# Altium footprint library D 电源模块.PcbLib: 107 footprints (part 2 of 7)
Each footprint in its own frame and in the unit in brackets; x right, y up, seen from the top. Pads: shape width x height; smd on the part's side, far side on the other; paste and mask are expansions set on the pad; w line width, h text height; cw(c..) or ccw(c..) is an arc to the next point about the centre after c.
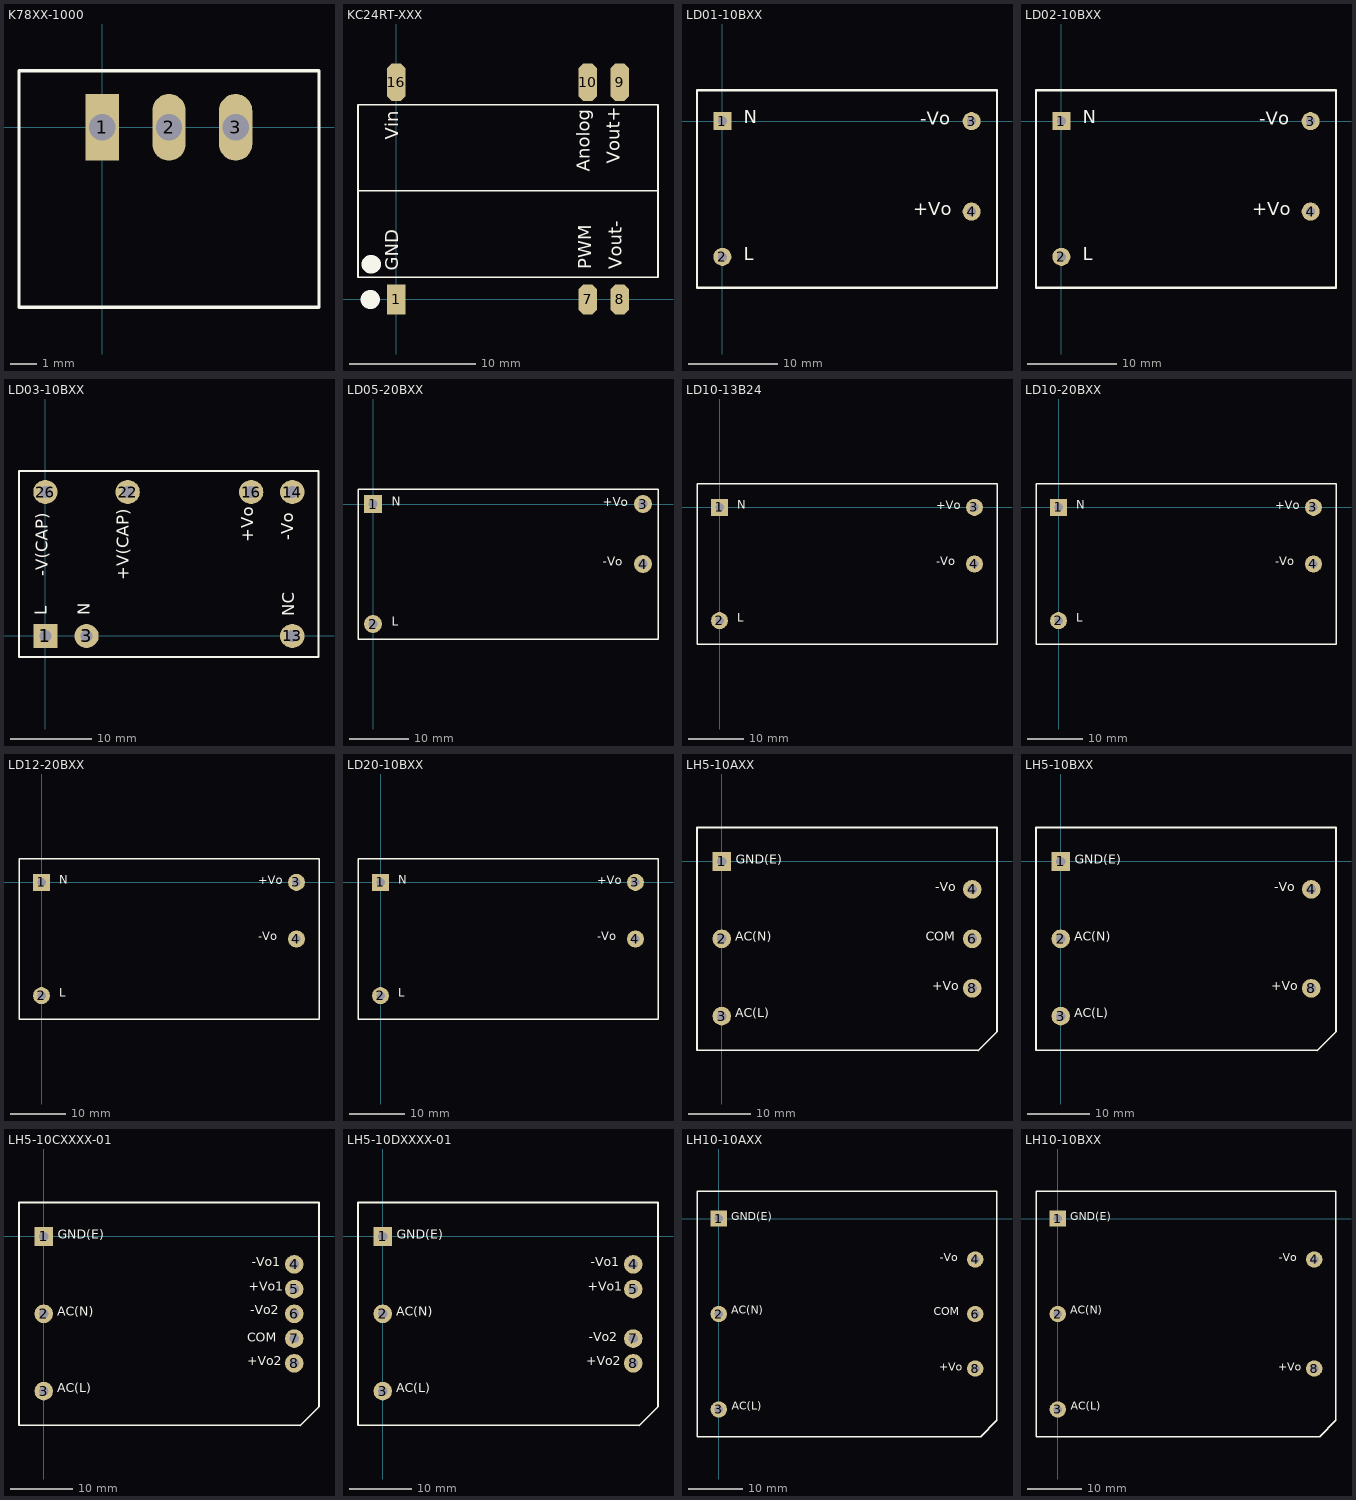
[diagram p1: the footprints below, top view; thin cyan lines are the x and y axes]

## K78XX-1000 [mm] "类似7805的开光电源"
height 17
pads (3):
  rect 1.27x2.54 hole 1: 1(0,0)
  oval 1.27x2.54 hole 1: 2(2.54,0) 3(5.08,0)
Top Overlay:
  lines w0.127: -3.175,-6.858 8.255,-6.858 8.255,2.159 -3.175,2.159 -3.175,-6.858

## KC24RT-XXX [mm] "金升阳大功率LED恒流驱动器-恒流单输出模块电源-300,350,500,600,700"
height 8
pads (6):
  rect 1.5x2.4 smd: 1(0,0)
  oct 1.5x2.4 smd: 7(15.24,0) 8(17.78,0)
  oct 1.5x3 smd: 9(17.78,17.272) 10(15.24,17.272) 16(0,17.272)
Top Overlay:
  lines w0.127: -3.048,8.636 20.828,8.636 ; -3.048,1.778 -3.048,15.494 20.828,15.494 20.828,1.778 -3.048,1.778
  lines w1.5: -2.083,0 -2.032,0 ; -2.032,2.794 -1.981,2.794
  text "Anolog" at 15.748,10.16 h1.78
  text "Vout+" at 18.161,10.795 h1.78
  text "Vout-" at 18.288,2.413 h1.78
  text "PWM" at 15.875,2.413 h1.78
  text "Vin" at 0.508,12.7 h1.78
  text "GND" at 0.508,2.286 h1.78

## LD01-10BXX [mil] "金升阳 1W 高性能超小体积AC-DC模块(85-265VAC,120-370VDC)"
height 708.66
pads (4):
  rect 80x80 hole 40: 1(0,0)
  round 80 hole 40: 2(0,-600) 3(1102.36,0) 4(1102.36,-400)
Top Overlay:
  lines w10: -112.2,-737.01 1214.57,-737.01 1214.57,137.01 -112.2,137.01 -112.2,-737.01
  text "L" at 95,-635 h100
  text "N" at 95,-30 h100
  text "+Vo" at 845,-435 h100
  text "-Vo" at 875,-35 h100
Bottom Overlay:
  text "-Vo" at 1005,-35 h100
  text "+Vo" at 1000,-435 h100
  text "L" at 135,-635 h100
  text "N" at 145,-30 h100

## LD02-10BXX [mil] "金升阳 2W 高性能超小体积AC-DC模块(85-265VAC,120-370VDC)"
height 708.66
pads (4):
  rect 80x80 hole 40: 1(0,0)
  round 80 hole 40: 2(0,-600) 3(1102.36,0) 4(1102.36,-400)
Top Overlay:
  lines w10: -112.2,-737.01 -112.2,137.01 1214.57,137.01 1214.57,-737.01 -112.2,-737.01
  text "-Vo" at 875,-35 h100
  text "+Vo" at 845,-435 h100
  text "N" at 95,-30 h100
  text "L" at 95,-635 h100
Bottom Overlay:
  text "N" at 145,-30 h100
  text "L" at 135,-635 h100
  text "+Vo" at 1000,-435 h100
  text "-Vo" at 1005,-35 h100

## LD03-10BXX [mm] "金升阳 3 W 高性能超小体积AC-DC模块(85-265VAC,120-370VDC)"
height 15
pads (7):
  rect 3x3 hole 1.5: 1(0,0)
  round 3 hole 1.5: 3(5.08,0) 13(30.48,0) 14(30.48,17.78) 16(25.4,17.78) 22(10.16,17.78) 26(0,17.78)
Top Overlay:
  lines w0.254: -3.26,-2.61 33.74,-2.61 33.74,20.39 30.48,20.39 0,20.39 -3.26,20.39 -3.26,-2.61
  text "+V(CAP)" at 10.795,6.858 h2.54
  text "-V(CAP)" at 0.762,7.366 h2.54
  text "N" at 5.969,2.54 h2.54
  text "L" at 0.635,2.54 h2.54
  text "NC" at 31.242,2.413 h2.54
  text "+Vo" at 26.162,11.557 h2.54
  text "-Vo" at 31.115,11.811 h2.54
Bottom Overlay:
  text "-Vo" at 29.464,11.811 h2.54
  text "+Vo" at 24.511,11.557 h2.54
  text "+V(CAP)" at 9.652,6.858 h2.54
  text "-V(CAP)" at -0.762,7.366 h2.54
  text "NC" at 29.591,2.413 h2.54
  text "N" at 4.445,2.54 h2.54
  text "L" at -1.016,2.54 h2.54

## LD05-20BXX [mil] "金升阳 5W 高性能超小体积AC-DC模块(85-265VAC,120-370VDC)"
height 596.85
pads (4):
  rect 120x120 hole 60: 1(0,0)
  round 120 hole 60: 2(0,-800) 3(1800,0) 4(1800,-400)
Top Overlay:
  lines w10: -100,-900 -100,100 1900,100 1900,-900 -100,-900
  text "-Vo" at 1530,-430 h100
  text "+Vo" at 1530,-35 h100
  text "N" at 125,-30 h100
  text "L" at 125,-830 h100
Bottom Overlay:
  text "N" at 175,-30 h100
  text "L" at 165,-830 h100
  text "+Vo" at 1685,-35 h100
  text "-Vo" at 1660,-430 h100

## LD10-13B24 [mil] "金升阳 10W 高性能超小体积AC-DC模块(85-305VAC,120-430VDC)"
height 748.03
pads (4):
  rect 120x120 hole 60: 1(0,0)
  round 120 hole 60: 2(0,-800) 3(1800,0) 4(1800,-400)
Top Overlay:
  lines w10: -159.06,-966.93 1959.06,-966.93 1959.06,166.93 -159.06,166.93 -159.06,-966.93
  text "L" at 125,-830 h100
  text "N" at 125,-30 h100
  text "+Vo" at 1530,-35 h100
  text "-Vo" at 1530,-430 h100
Bottom Overlay:
  text "-Vo" at 1660,-430 h100
  text "+Vo" at 1685,-35 h100
  text "L" at 165,-830 h100
  text "N" at 175,-30 h100

## LD10-20BXX [mil] "金升阳 10W 高性能超小体积AC-DC模块(85-265VAC,120-370VDC)"
height 748.03
pads (4):
  rect 120x120 hole 60: 1(0,0)
  round 120 hole 60: 2(0,-800) 3(1800,0) 4(1800,-400)
Top Overlay:
  lines w10: -159.06,-966.93 1959.06,-966.93 1959.06,166.93 -159.06,166.93 -159.06,-966.93
  text "L" at 125,-830 h100
  text "N" at 125,-30 h100
  text "+Vo" at 1530,-35 h100
  text "-Vo" at 1530,-430 h100
Bottom Overlay:
  text "-Vo" at 1660,-430 h100
  text "+Vo" at 1685,-35 h100
  text "L" at 165,-830 h100
  text "N" at 175,-30 h100

## LD12-20BXX [mil] "金升阳 12W 高性能超小体积AC-DC模块(85-265VAC,120-370VDC)"
height 925.2
pads (4):
  rect 120x120 hole 60: 1(0,0)
  round 120 hole 60: 2(0,-800) 3(1800,0) 4(1800,-400)
Top Overlay:
  lines w10: -159.06,-966.93 1959.06,-966.93 1959.06,166.93 -159.06,166.93 -159.06,-966.93
  text "L" at 125,-830 h100
  text "N" at 125,-30 h100
  text "+Vo" at 1530,-35 h100
  text "-Vo" at 1530,-430 h100
Bottom Overlay:
  text "-Vo" at 1660,-430 h100
  text "+Vo" at 1685,-35 h100
  text "L" at 165,-830 h100
  text "N" at 175,-30 h100

## LD20-10BXX [mil] "金升阳 20W 高性能超小体积AC-DC模块(85-265VAC,120-370VDC)"
height 925.2
pads (4):
  rect 120x120 hole 60: 1(0,0)
  round 120 hole 60: 2(0,-800) 3(1800,0) 4(1800,-400)
Top Overlay:
  lines w10: -159.06,-966.93 1959.06,-966.93 1959.06,166.93 -159.06,166.93 -159.06,-966.93
  text "L" at 125,-830 h100
  text "N" at 125,-30 h100
  text "+Vo" at 1530,-35 h100
  text "-Vo" at 1530,-430 h100
Bottom Overlay:
  text "-Vo" at 1660,-430 h100
  text "+Vo" at 1685,-35 h100
  text "L" at 165,-830 h100
  text "N" at 175,-30 h100

## LH5-10AXX [mm] "金升阳 5 W 高性能小体积标准AC-DC模块(85-265VAC,120-370VDC)"
height 20.5
pads (6):
  rect 3x3 hole 1.5: 1(0,0)
  round 3 hole 1.5: 2(0,-12.5) 3(0,-25) 4(40.5,-4.5) 6(40.5,-12.5) 8(40.5,-20.5)
Top Overlay:
  lines w0.254: 41.45,-30.559 44.45,-27.559 ; 41.5,-30.5 -4,-30.5 -4,5.5 44.5,5.5 44.5,-27.5
  text "COM" at 33.02,-13.335 h2.54
  text "GND(E)" at 2.286,-0.889 h2.54
  text "AC(N)" at 2.159,-13.335 h2.54
  text "AC(L)" at 2.159,-25.654 h2.54
  text "-Vo" at 34.544,-5.334 h2.54
  text "+Vo" at 34.036,-21.336 h2.54
Bottom Overlay:
  text "COM" at 37.973,-13.335 h2.54
  text "+Vo" at 37.973,-21.336 h2.54
  text "-Vo" at 37.973,-5.334 h2.54
  text "GND(E)" at 10.16,-0.889 h2.54
  text "AC(N)" at 8.509,-13.335 h2.54
  text "AC(L)" at 8.128,-25.654 h2.54

## LH5-10BXX [mm] "金升阳 5 W 高性能小体积标准AC-DC模块(85-265VAC,120-370VDC)"
height 20.5
pads (5):
  rect 3x3 hole 1.5: 1(0,0)
  round 3 hole 1.5: 2(0,-12.5) 3(0,-25) 4(40.5,-4.5) 8(40.5,-20.5)
Top Overlay:
  lines w0.254: 41.45,-30.559 44.45,-27.559 ; 41.5,-30.5 -4,-30.5 -4,5.5 44.5,5.5 44.5,-27.5
  text "GND(E)" at 2.286,-0.889 h2.54
  text "AC(N)" at 2.159,-13.335 h2.54
  text "AC(L)" at 2.159,-25.654 h2.54
  text "-Vo" at 34.544,-5.334 h2.54
  text "+Vo" at 34.036,-21.336 h2.54
Bottom Overlay:
  text "+Vo" at 37.973,-21.336 h2.54
  text "-Vo" at 37.973,-5.334 h2.54
  text "GND(E)" at 10.16,-0.889 h2.54
  text "AC(N)" at 8.509,-13.335 h2.54
  text "AC(L)" at 8.128,-25.654 h2.54

## LH5-10CXXXX-01 [mm] "金升阳 5 W 高性能小体积标准AC-DC模块(85-265VAC,120-370VDC)"
height 20.5
pads (8):
  rect 3x3 hole 1.5: 1(0,0)
  round 3 hole 1.5: 2(0,-12.5) 3(0,-25) 4(40.5,-4.5) 5(40.5,-8.5) 6(40.5,-12.5) 7(40.5,-16.5) 8(40.5,-20.5)
Top Overlay:
  lines w0.254: 41.45,-30.559 44.45,-27.559 ; 41.5,-30.5 -4,-30.5 -4,5.5 44.5,5.5 44.5,-27.5
  text "COM" at 32.893,-17.526 h2.54
  text "-Vo2" at 33.401,-13.081 h2.54
  text "GND(E)" at 2.286,-0.889 h2.54
  text "AC(N)" at 2.159,-13.335 h2.54
  text "AC(L)" at 2.159,-25.654 h2.54
  text "-Vo1" at 33.655,-5.334 h2.54
  text "+Vo2" at 32.893,-21.336 h2.54
  text "+Vo1" at 33.147,-9.271 h2.54
Bottom Overlay:
  text "COM" at 37.846,-17.526 h2.54
  text "-Vo2" at 37.973,-13.208 h2.54
  text "+Vo2" at 37.973,-21.336 h2.54
  text "-Vo1" at 37.973,-5.334 h2.54
  text "GND(E)" at 10.16,-0.889 h2.54
  text "AC(N)" at 8.509,-13.335 h2.54
  text "AC(L)" at 8.128,-25.654 h2.54
  text "+Vo1" at 37.846,-9.271 h2.54

## LH5-10DXXXX-01 [mm] "金升阳 5 W 高性能小体积标准AC-DC模块(85-265VAC,120-370VDC)"
height 20.5
pads (7):
  rect 3x3 hole 1.5: 1(0,0)
  round 3 hole 1.5: 2(0,-12.5) 3(0,-25) 4(40.5,-4.5) 5(40.5,-8.5) 7(40.5,-16.5) 8(40.5,-20.5)
Top Overlay:
  lines w0.254: 41.45,-30.559 44.45,-27.559 ; 41.5,-30.5 -4,-30.5 -4,5.5 44.5,5.5 44.5,-27.5
  text "+Vo1" at 33.147,-9.271 h2.54
  text "+Vo2" at 32.893,-21.336 h2.54
  text "-Vo1" at 33.655,-5.334 h2.54
  text "AC(L)" at 2.159,-25.654 h2.54
  text "AC(N)" at 2.159,-13.335 h2.54
  text "GND(E)" at 2.286,-0.889 h2.54
  text "-Vo2" at 33.274,-17.399 h2.54
Bottom Overlay:
  text "+Vo1" at 37.846,-9.271 h2.54
  text "AC(L)" at 8.128,-25.654 h2.54
  text "AC(N)" at 8.509,-13.335 h2.54
  text "GND(E)" at 10.16,-0.889 h2.54
  text "-Vo1" at 37.973,-5.334 h2.54
  text "+Vo2" at 37.973,-21.336 h2.54
  text "-Vo2" at 37.846,-17.526 h2.54

## LH10-10AXX [mm] "金升阳 10. W 高性能小体积标准AC-DC模块(85-265VAC,120-370VDC)"
height 21
pads (6):
  rect 3x3 hole 1.5: 1(0,0)
  round 3 hole 1.5: 2(0,-17.5) 3(0,-35) 4(47,-7.5) 6(47,-17.5) 8(47,-27.5)
Top Overlay:
  lines w0.254: -4,-40 48,-40 51,-37 51,5 -4,5 -4,-40
  text "COM" at 39.37,-18.288 h2.54
  text "GND(E)" at 2.286,-0.889 h2.54
  text "AC(N)" at 2.286,-18.034 h2.54
  text "AC(L)" at 2.413,-35.56 h2.54
  text "-Vo" at 40.513,-8.382 h2.54
  text "+Vo" at 40.386,-28.448 h2.54
Bottom Overlay:
  text "COM" at 44.323,-18.288 h2.54
  text "+Vo" at 44.196,-28.448 h2.54
  text "-Vo" at 43.942,-8.382 h2.54
  text "GND(E)" at 10.16,-0.889 h2.54
  text "AC(N)" at 8.636,-18.034 h2.54
  text "AC(L)" at 8.382,-35.56 h2.54

## LH10-10BXX [mm] "金升阳 10. W 高性能小体积标准AC-DC模块(85-265VAC,120-370VDC)"
height 21
pads (5):
  rect 3x3 hole 1.5: 1(0,0)
  round 3 hole 1.5: 2(0,-17.5) 3(0,-35) 4(47,-7.5) 8(47,-27.5)
Top Overlay:
  lines w0.254: -4,-40 -4,5 51,5 51,-37 48,-40 -4,-40
  text "+Vo" at 40.386,-28.448 h2.54
  text "-Vo" at 40.513,-8.382 h2.54
  text "AC(L)" at 2.413,-35.56 h2.54
  text "AC(N)" at 2.286,-18.034 h2.54
  text "GND(E)" at 2.286,-0.889 h2.54
Bottom Overlay:
  text "AC(L)" at 8.382,-35.56 h2.54
  text "AC(N)" at 8.636,-18.034 h2.54
  text "GND(E)" at 10.16,-0.889 h2.54
  text "-Vo" at 43.942,-8.382 h2.54
  text "+Vo" at 44.196,-28.448 h2.54